# EAGLE library part XFMR_372HX (library wheat)
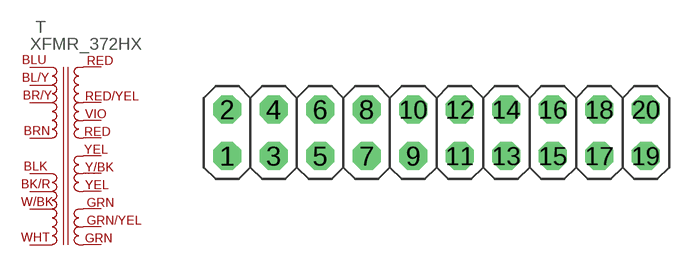
[diagram p225: symbol with the pads of HDR2X10; footprint HDR2X10]

Designator prefix T

## XFMR_372HX  [HDR2X10]
1  P1  pas
2  P2  pas
3  P3  pas
4  P4  pas
5  P5  pas
6  P6  pas
7  P7  pas
8  P8  pas
9  S1  pas
10  S2  pas
11  S3  pas
12  S4  pas
13  S5  pas
14  S6  pas
15  S7  pas
16  S8  pas
17  S11  pas
18  S12  pas

## Footprint HDR2X10 (pad centres in mm)
drill 1.016 octagon: 1 -11.43,-1.27; 2 -11.43,1.27; 3 -8.89,-1.27; 4 -8.89,1.27; 5 -6.35,-1.27; 6 -6.35,1.27; 7 -3.81,-1.27; 8 -3.81,1.27; 9 -1.27,-1.27; 10 -1.27,1.27; 11 1.27,-1.27; 12 1.27,1.27; 13 3.81,-1.27; 14 3.81,1.27; 15 6.35,-1.27; 16 6.35,1.27; 17 8.89,-1.27; 18 8.89,1.27; 19 11.43,-1.27; 20 11.43,1.27